# Altium footprint library 12_way.PcbLib: 5 footprints
Each footprint in its own frame and in the unit in brackets; x right, y up, seen from the top. Pads: shape width x height; smd on the part's side, far side on the other; paste and mask are expansions set on the pad; w line width, h text height; cw(c..) or ccw(c..) is an arc to the next point about the centre after c.
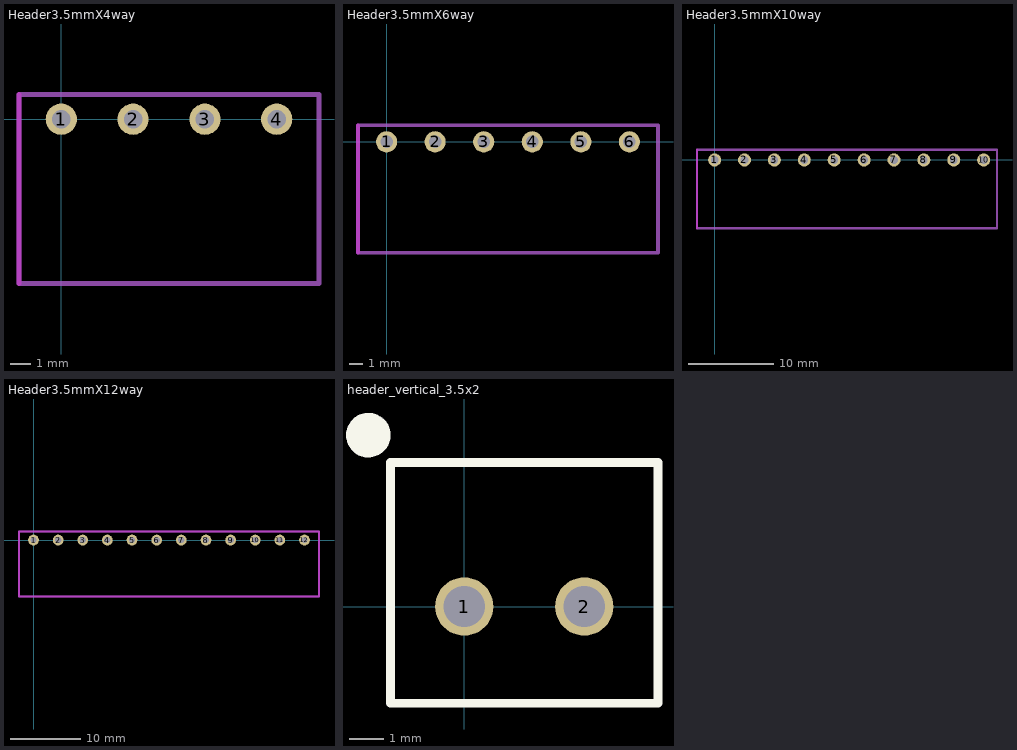
[diagram p0: the footprints below, top view; thin cyan lines are the x and y axes]

## Header3.5mmX4way [mil]
height 3937.01
pads (4):
  round 60 hole 35.43: 1(0,0) 2(137.8,0) 3(275.59,0) 4(413.39,0)
Mechanical 1:
  lines w10: -81.1,-314.96 494.49,-314.96 494.49,47.24 ; -81.1,47.24 494.49,47.24 ; 494.49,-299.21 494.49,47.24
Mechanical 1 keep-out:
  lines w10: -81.1,-314.96 -81.1,47.24

## Header3.5mmX6way [mil]
height 3937.01
pads (6):
  round 60 hole 35.43: 1(0,0) 2(137.8,0) 3(275.59,0) 4(413.39,0) 5(551.18,0) 6(688.98,0)
Mechanical 1:
  lines w10: -81.1,-314.96 770.08,-314.96 770.08,45.87 ; -81.1,47.24 770.08,47.24
Mechanical 1 keep-out:
  lines w10: -81.1,-314.96 -81.1,47.24

## Header3.5mmX10way [mil]
height 1811.02
pads (10):
  round 60 hole 35.43: 1(0,0) 2(137.8,0) 3(275.59,0) 4(413.39,0) 5(551.18,0) 6(688.98,0) 7(826.77,0) 8(964.57,0) 9(1102.36,0) 10(1240.16,0)
Mechanical 1:
  lines w10: -81.1,-314.96 1301.57,-314.96 1301.57,46.85 ; -81.1,47.24 1301.18,47.24
Mechanical 1 keep-out:
  lines w10: -81.1,-314.96 -81.1,47.24

## Header3.5mmX12way [mil]
pads (12):
  round 60 hole 35.43: 1(0,0) 2(137.8,0) 3(275.59,0) 4(413.39,0) 5(551.18,0) 6(688.98,0) 7(826.77,0) 8(964.57,0) 9(1102.36,0) 10(1240.16,0) 11(1377.95,0) 12(1515.75,0)
Mechanical 1 keep-out:
  lines w10: -81.1,-314.96 1596.85,-314.96 1596.85,47.24 -81.1,47.24 -81.1,-314.96

## header_vertical_3.5x2 [mm]
height 10
pads (2):
  round 1.7 hole 1.2: 1(0,0) 2(3.5,0)
Top Overlay:
  circle w0.7: c-2.8,5 r0.3
  lines w0.254: 5.65,-0.31 5.65,4.2 -2.15,4.2 -2.15,0.69 -2.15,-2.82 5.65,-2.82 5.65,0.69